# Altium schematic symbol library STMicroelectronics.SchLib: 5 symbols
Pins are listed as number, name and electrical type; pins without a type are passive.

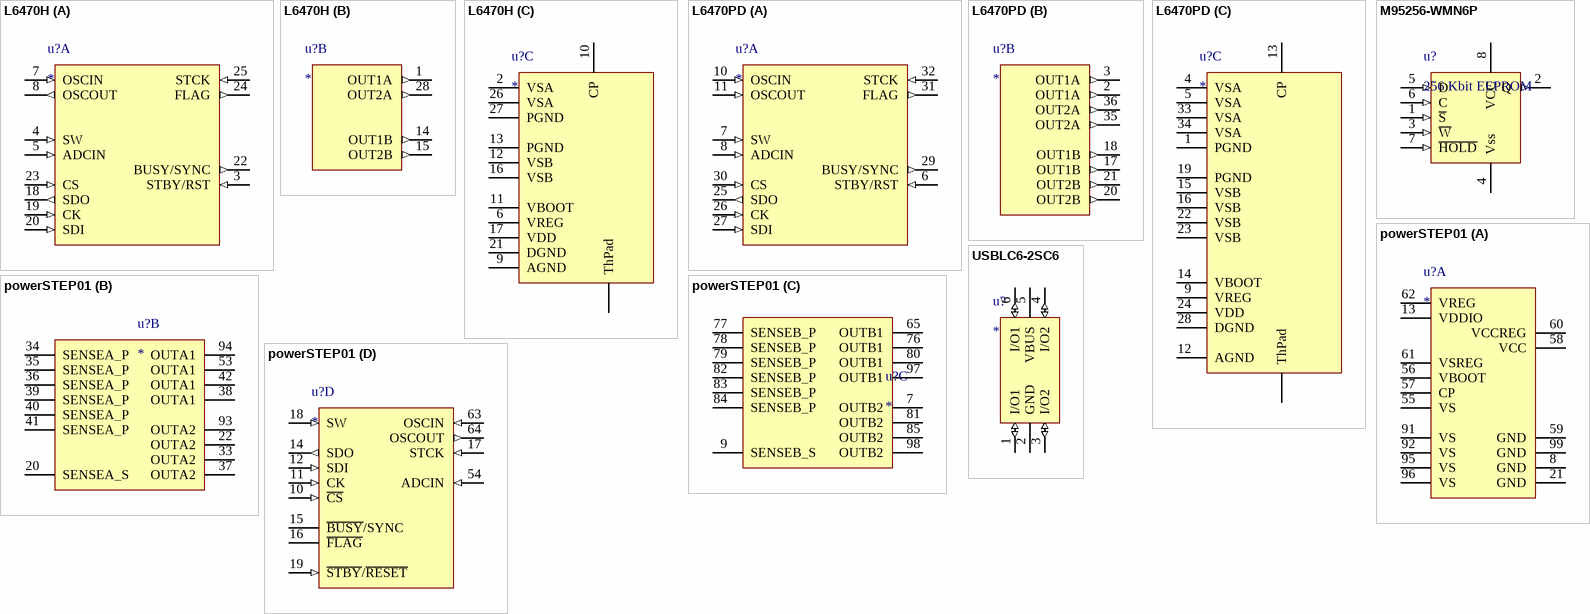
[diagram p0: symbols L6470H to USBLC6-2SC6]

## L6470H
designator u?
HTSSOP28
footprint HTSSOP28
part A pins: 3 STBY/RST (in), 4 SW (in), 5 ADCIN (in), 7 OSCIN (in), 8 OSCOUT (out), 18 SDO (out), 19 CK (in), 20 SDI (in), 22 BUSY/SYNC (out), 23 CS (in), 24 FLAG (out), 25 STCK (in)
part B pins: 1 OUT1A (out), 14 OUT1B (out), 15 OUT2B (out), 28 OUT2A (out)
part C pins: 2 VSA (power), 6 VREG (power), 9 AGND (power), 10 CP (power), 11 VBOOT (power), 12 VSB (power), 13 PGND (power), 16 VSB (power), 17 VDD (power), 21 DGND (power), 26 VSA (power), 27 PGND (power), 29 ThPad

## L6470PD
designator u?
PowerSO-36
footprint PowerSO-36
part A pins: 6 STBY/RST (in), 7 SW (in), 8 ADCIN (in), 10 OSCIN (in), 11 OSCOUT (in), 25 SDO (out), 26 CK (in), 27 SDI (in), 29 BUSY/SYNC (out), 30 CS (in), 31 FLAG (out), 32 STCK (in)
part B pins: 2 OUT1A (out), 3 OUT1A (out), 17 OUT1B (out), 18 OUT1B (out), 20 OUT2B (out), 21 OUT2B (out), 35 OUT2A (out), 36 OUT2A (out)
part C pins: 1 PGND (power), 4 VSA (power), 5 VSA (power), 9 VREG (power), 12 AGND (power), 13 CP (power), 14 VBOOT (power), 15 VSB (power), 16 VSB (power), 19 PGND (power), 22 VSB (power), 23 VSB (power), 24 VDD (power), 28 DGND (power), 33 VSA (power), 34 VSA (power), 37 ThPad

## M95256-WMN6P
designator u?, comment 256 Kbit EEPROM
TSSOP-8
pins: 1 ~{S} (in), 2 Q (out), 3 ~{W} (in), 4 Vss (power), 5 D (in), 6 C (in), 7 ~{HOLD} (in), 8 VCC (power)

## powerSTEP01
designator u?
VFQFPN
footprint VFQFPN
part A pins: 8 GND (power) "Ground", 13 VDDIO (power) "Logic interface Supply Voltage", 21 GND (power) "Ground", 55 VS (power) "Motor supply voltage", 56 VBOOT (power) "Bootstrap voltage needed  for driving the high-side power DMOS of both bridges", 57 CP (power) "Charge pump oscillator output", 58 VCC (power) "Gate driver supply voltage", 59 GND (power) "Ground", 60 VCCREG (power) "Internal VREG voltage regulator supply voltage", 61 VSREG (power) "Internal VCC voltage regulator supply voltage", 62 VREG (power) "Logic Supply Voltage", 91 VS (power) "Motor Supply Voltage", 92 VS (power) "Motor Supply Voltage", 95 VS (power) "Motor Supply Voltage", 96 VS (power) "Motor Supply Voltage", 99 GND (power) "Ground"
part B pins: 20 SENSEA_S (power) "Ground", 22 OUTA2 "Half-bridge A2 output", 33 OUTA2 "Half-bridge A2 output", 34 SENSEA_P (power) "Ground", 35 SENSEA_P (power) "Ground", 36 SENSEA_P (power) "Ground", 37 OUTA2 "Half-bridge A2 output", 38 OUTA1 "Half-bridge A1 output", 39 SENSEA_P (power) "Ground", 40 SENSEA_P (power) "Ground", 41 SENSEA_P (power) "Ground", 42 OUTA1 "Half-bridge A1 output", 53 OUTA1 "Half-bridge A1 output", 93 OUTA2 "Half-bridge A2 output", 94 OUTA1 "Half-bridge A1 output"
part C pins: 7 OUTB2 "Half-bridge A2 output", 9 SENSEB_S (power) "Ground", 65 OUTB1 "Half-bridge A1 output", 76 OUTB1 "Half-bridge A1 output", 77 SENSEB_P (power) "Ground", 78 SENSEB_P (power) "Ground", 79 SENSEB_P (power) "Ground", 80 OUTB1 "Half-bridge A1 output", 81 OUTB2 "Half-bridge A2 output", 82 SENSEB_P (power) "Ground", 83 SENSEB_P (power) "Ground", 84 SENSEB_P (power) "Ground", 85 OUTB2 "Half-bridge A2 output", 97 OUTB1 "Half-bridge A1 output", 98 OUTB2 "Half-bridge A2 output"
part D pins: 10 ~{CS} (in) "SPI Chip Select", 11 CK (in) "SPI Clock input", 12 SDI (in) "SPI Data input", 14 SDO (out) "SPI Data output", 15 ~{BUSY}/SYNC (oc), 16 ~{FLAG} (oc), 17 STCK (in), 18 SW (in) "External Switch input", 19 ~{STBY}/~{RESET} (in), 54 ADCIN (in) "internal ADC input", 63 OSCIN (in) "Oscillator pin 1", 64 OSCOUT (out) "Oscillator pin 1"

## USBLC6-2SC6
designator u?
SOT23-6 ESD
footprint SOT23-6
pins: 1 I/O1 (io), 2 GND (power), 3 I/O2 (io), 4 I/O2 (io), 5 VBUS (power), 6 I/O1 (io)